# EAGLE library part 615008142521 (library Wurth_Connectors_WR-MJ)
WR-MJ Modular Jack 45° Plastic 8P8C KIND PROPERTIES Quality Class:500 Mating cycles General Information Operating Temperature:-40 up to +85 °C Compliance:RoHS Electrical Properties IR1:1.5A Working Voltage:120V (AC) Withstanding Voltage:1000V (AC) Contact Resistance:20mΩ RISO:500 MΩ Material Properties Insulator MateriaL:PBT Insulator Flammability Rating:UL94 V-0 Color:White Contact Material:Copper Alloy Contact Plating:Selective Gold Contact Type:Stamped Shielding Material:Bronze Shielding Plating:Nickel Packaging Properties Packaging:Tray <https://www.we-online.com/catalog/media/o33130v209%20Family_WR-MJ_615008142521.jpg> Details see: https://www.we-online.com/catalog/en/MJ_45-DEGREE_PLASTIC_8P8C/ Updated by Yingchun,Shan 2019-11-26 2019 (C) Würth Elektronik
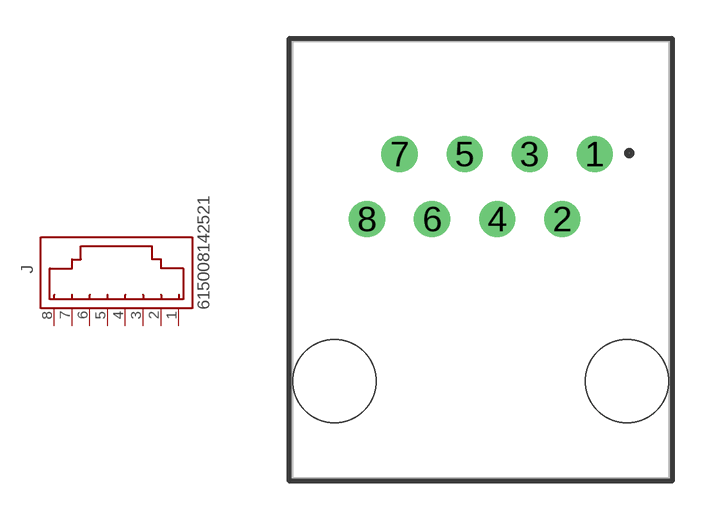
[diagram p5: symbol with the pads of 615008142521; footprint 615008142521]

Designator prefix J

## 615008142521 (DATASHEET-URL: https://www.we-online.com/redexpert/spec/615008142521?ae; LED: /; MOUNT: THT; PART-NUMBER: 615008142521; TYPE: 45°; VALUE: 615008142521; XPXC: 8P8C)  [615008142521]
1  1  pas
2  2  pas
3  3  pas
4  4  pas
5  5  pas
6  6  pas
7  7  pas
8  8  pas

## Footprint 615008142521 (pad centres in mm)
WR-MJ Modular Jack 45° Plastic 8P8C
drill 0.9: 1 4.445,4.135; 2 3.175,1.595; 3 1.905,4.135; 4 0.635,1.595; 5 -0.635,4.135; 6 -1.905,1.595; 7 -3.175,4.135; 8 -4.445,1.595
hole 3.25 at -5.715,-4.755
hole 3.25 at 5.715,-4.755